# Altium schematic symbol library Schlib3.SchLib: 3 symbols
Pins are listed as number, name and electrical type; pins without a type are passive.

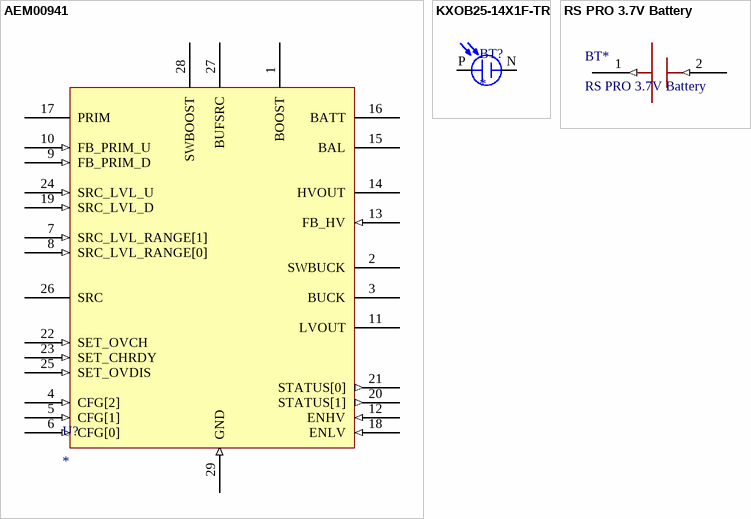
[diagram p0: symbols AEM00941 to RS PRO 3.7V Battery]

## AEM00941
designator U?
footprint QFN40P400X400X85_HS-29N (QFN, 28-Leads, Body 4.00x4.00mm, Pitch 0.40mm, Thermal Pad 2.60x2.60mm, IPC Medium Density)
pins: 1 BOOST (power), 2 SWBUCK (power), 3 BUCK (power), 4 CFG[2] (in), 5 CFG[1] (in), 6 CFG[0] (in), 7 SRC_LVL_RANGE[1] (in), 8 SRC_LVL_RANGE[0] (in), 9 FB_PRIM_D (in), 10 FB_PRIM_U (in), 11 LVOUT (power), 12 ENHV (in), 13 FB_HV (in), 14 HVOUT (power), 15 BAL (power), 16 BATT (power), 17 PRIM (power), 18 ENLV (in), 19 SRC_LVL_D (in), 20 STATUS[1] (out), 21 STATUS[0] (out), 22 SET_OVCH (in), 23 SET_CHRDY (in), 24 SRC_LVL_U (in), 25 SET_OVDIS (in), 26 SRC (power), 27 BUFSRC (power), 28 SWBOOST (power), 29 GND (in)

## KXOB25-14X1F-TR
designator BT?
Monocrystalline Solar Cell 30.7 mW 690 mV; MF: ANYSOLAR Ltd; MP: KXOB25-14X1F-TR; SnapEDA_Link: https://www.snapeda.com/parts/KXOB25-14X1F-TR/Sola/view-part/?ref=snap; Package: None; Value: *; Check_prices: https://www.snapeda.com/parts/KXOB25-14X1F-TR/Sola/view-part/?ref=eda
footprint SOLAR_KXOB25-14X1F-TR
pins: N, P

## RS PRO 3.7V Battery
designator BT*
pins: 1 BATT_POS (out), 2 BATT_NEG (in)